# Altium footprint library stm32h753zit6.PcbLib: 1 footprints
Each footprint in its own frame and in the unit in brackets; x right, y up, seen from the top. Pads: shape width x height; smd on the part's side, far side on the other; paste and mask are expansions set on the pad; w line width, h text height; cw(c..) or ccw(c..) is an arc to the next point about the centre after c.
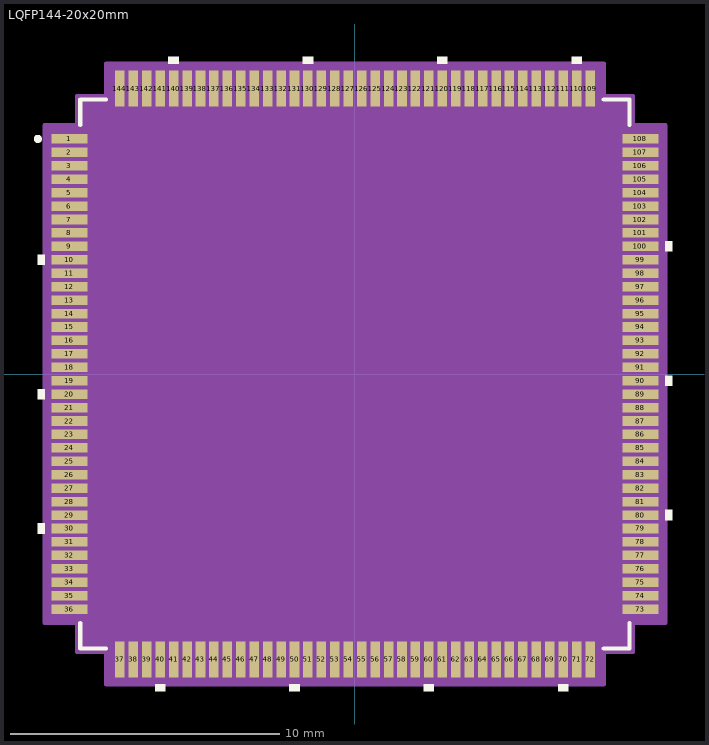
[diagram p0: the footprint, top view; thin cyan lines are the x and y axes]

## LQFP144-20x20mm [mm]
pads (144):
  rect 1.346x0.356 smd paste+0 mask+0: 1(-10.625,8.75) 2(-10.625,8.25) 3(-10.625,7.75) 4(-10.625,7.25) 5(-10.625,6.75) 6(-10.625,6.25) 7(-10.625,5.75) 8(-10.625,5.25) 9(-10.625,4.75) 10(-10.625,4.25) 11(-10.625,3.75) 12(-10.625,3.25) 13(-10.625,2.75) 14(-10.625,2.25) 15(-10.625,1.75) 16(-10.625,1.25) 17(-10.625,0.75) 18(-10.625,0.25) 19(-10.625,-0.25) 20(-10.625,-0.75) 21(-10.625,-1.25) 22(-10.625,-1.75) 23(-10.625,-2.25) 24(-10.625,-2.75) 25(-10.625,-3.25) 26(-10.625,-3.75) 27(-10.625,-4.25) 28(-10.625,-4.75) 29(-10.625,-5.25) 30(-10.625,-5.75) 31(-10.625,-6.25) 32(-10.625,-6.75) 33(-10.625,-7.25) 34(-10.625,-7.75) 35(-10.625,-8.25) 36(-10.625,-8.75) 73(10.625,-8.75) 74(10.625,-8.25) 75(10.625,-7.75) 76(10.625,-7.25) 77(10.625,-6.75) 78(10.625,-6.25) 79(10.625,-5.75) 80(10.625,-5.25) 81(10.625,-4.75) 82(10.625,-4.25) 83(10.625,-3.75) 84(10.625,-3.25) 85(10.625,-2.75) 86(10.625,-2.25) 87(10.625,-1.75) 88(10.625,-1.25) 89(10.625,-0.75) 90(10.625,-0.25) 91(10.625,0.25) 92(10.625,0.75) 93(10.625,1.25) 94(10.625,1.75) 95(10.625,2.25) 96(10.625,2.75) 97(10.625,3.25) 98(10.625,3.75) 99(10.625,4.25) 100(10.625,4.75) 101(10.625,5.25) 102(10.625,5.75) 103(10.625,6.25) 104(10.625,6.75) 105(10.625,7.25) 106(10.625,7.75) 107(10.625,8.25) 108(10.625,8.75)
  rect 0.356x1.346 smd paste+0 mask+0: 37(-8.75,-10.625) 38(-8.25,-10.625) 39(-7.75,-10.625) 40(-7.25,-10.625) 41(-6.75,-10.625) 42(-6.25,-10.625) 43(-5.75,-10.625) 44(-5.25,-10.625) 45(-4.75,-10.625) 46(-4.25,-10.625) 47(-3.75,-10.625) 48(-3.25,-10.625) 49(-2.75,-10.625) 50(-2.25,-10.625) 51(-1.75,-10.625) 52(-1.25,-10.625) 53(-0.75,-10.625) 54(-0.25,-10.625) 55(0.25,-10.625) 56(0.75,-10.625) 57(1.25,-10.625) 58(1.75,-10.625) 59(2.25,-10.625) 60(2.75,-10.625) 61(3.25,-10.625) 62(3.75,-10.625) 63(4.25,-10.625) 64(4.75,-10.625) 65(5.25,-10.625) 66(5.75,-10.625) 67(6.25,-10.625) 68(6.75,-10.625) 69(7.25,-10.625) 70(7.75,-10.625) 71(8.25,-10.625) 72(8.75,-10.625) 109(8.75,10.625) 110(8.25,10.625) 111(7.75,10.625) 112(7.25,10.625) 113(6.75,10.625) 114(6.25,10.625) 115(5.75,10.625) 116(5.25,10.625) 117(4.75,10.625) 118(4.25,10.625) 119(3.75,10.625) 120(3.25,10.625) 121(2.75,10.625) 122(2.25,10.625) 123(1.75,10.625) 124(1.25,10.625) 125(0.75,10.625) 126(0.25,10.625) 127(-0.25,10.625) 128(-0.75,10.625) 129(-1.25,10.625) 130(-1.75,10.625) 131(-2.25,10.625) 132(-2.75,10.625) 133(-3.25,10.625) 134(-3.75,10.625) 135(-4.25,10.625) 136(-4.75,10.625) 137(-5.25,10.625) 138(-5.75,10.625) 139(-6.25,10.625) 140(-6.75,10.625) 141(-7.25,10.625) 142(-7.75,10.625) 143(-8.25,10.625) 144(-8.75,10.625)
Top Overlay:
  circle w0.152: c-11.802,8.75 r0.076
  region: -11.552,4.44 -11.806,4.44 -11.806,4.059 -11.552,4.059
  region: -11.552,-0.56 -11.806,-0.56 -11.806,-0.941 -11.552,-0.941
  region: -11.552,-5.56 -11.806,-5.56 -11.806,-5.941 -11.552,-5.941
  region: -7.06,-11.552 -7.441,-11.552 -7.441,-11.806 -7.06,-11.806
  region: -2.06,-11.552 -2.441,-11.552 -2.441,-11.806 -2.06,-11.806
  region: 2.94,-11.552 2.559,-11.552 2.559,-11.806 2.94,-11.806
  region: 7.94,-11.552 7.559,-11.552 7.559,-11.806 7.94,-11.806
  region: 11.552,-5.059 11.806,-5.059 11.806,-5.44 11.552,-5.44
  region: 11.552,-0.059 11.806,-0.059 11.806,-0.44 11.552,-0.44
  region: 11.552,4.941 11.806,4.941 11.806,4.56 11.552,4.56
  region: 8.441,11.552 8.06,11.552 8.06,11.806 8.441,11.806
  region: 3.441,11.552 3.06,11.552 3.06,11.806 3.441,11.806
  region: -1.559,11.552 -1.94,11.552 -1.94,11.806 -1.559,11.806
  region: -6.559,11.552 -6.94,11.552 -6.94,11.806 -6.559,11.806
  lines w0.152: -10.223,-9.261 -10.223,-10.223 -9.261,-10.223 ; -10.223,9.261 -10.223,10.223 -9.261,10.223 ; 9.261,-10.223 10.223,-10.223 10.223,-9.261 ; 9.261,10.223 10.223,10.223 10.223,9.261
  text ".Designator" at -3.492,-0.635 h1.27
Mechanical 13:
  circle w0.025: c-9.317,8.75 r0.076
  lines w0.025: -10.096,8.826 -8.826,10.096 ; -10.096,-10.096 10.096,-10.096 10.096,10.096 -10.096,10.096 -10.096,-10.096
  text ".Designator" at -3.492,-0.635 h1.27
Mechanical 15:
  region: -9.258,-10.351 -10.351,-10.351 -10.351,-9.258 -11.552,-9.258 -11.552,9.258 -10.351,9.258 -10.351,10.351 -9.258,10.351 -9.258,11.552 9.258,11.552 9.258,10.351 10.351,10.351 10.351,9.258 11.552,9.258 11.552,-9.258 10.351,-9.258 10.351,-10.351 9.258,-10.351 9.258,-11.552 -9.258,-11.552
  lines w0.152: -11.552,-9.258 -10.351,-9.258 -10.351,-10.351 -9.258,-10.351 -9.258,-11.552 9.258,-11.552 9.258,-10.351 10.351,-10.351 10.351,-9.258 11.552,-9.258 11.552,9.258 10.351,9.258 10.351,10.351 9.258,10.351 9.258,11.552 -9.258,11.552 -9.258,10.351 -10.351,10.351 -10.351,9.258 -11.552,9.258 -11.552,-9.258
3D body "LQFP144-20x20mm.step": height 1.6, standoff 0, extent -10.948,-10.948 10.948,10.948